# EAGLE library part TPS54495 (library ruark2)
Buck Switching Regulator IC Positive Adjustable 0.76V 2 Output 4A, 2A 16-PowerTSSOP (0.173", 4.40mm Width)
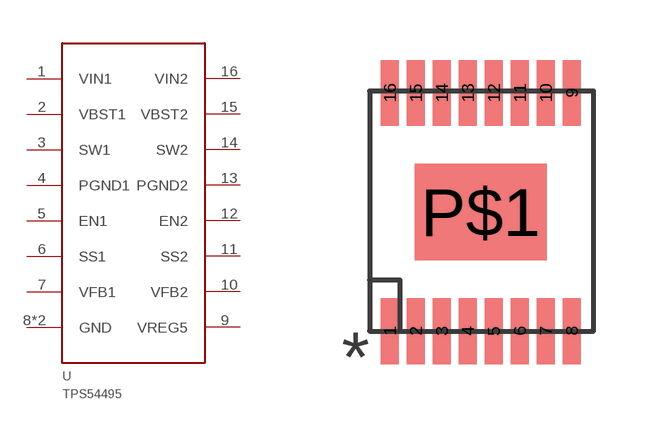
[diagram p124: symbol with the pads of TSSOP16-POWER; footprint TSSOP16-POWER]

Designator prefix U

## TPS54495 (PARTNO: 296-30583-1-ND)  [TSSOP16-POWER]
1  VIN1
2  VBST1
3  SW1
4  PGND1
5  EN1
6  SS1
7  VFB1
8  GND
9  VREG5
10  VFB2
11  SS2
12  EN2
13  PGND2
14  SW2
15  VBST2
16  VIN2
P$1  GND

## Footprint TSSOP16-POWER (pad centres in mm)
smd 0.45 x 1.65: 1 -2.275,-2.975; 2 -1.625,-2.975; 3 -0.975,-2.975; 4 -0.325,-2.975; 5 0.325,-2.975; 6 0.975,-2.975; 7 1.625,-2.975; 8 2.275,-2.975; 9 2.275,2.975; 10 1.625,2.975; 11 0.975,2.975; 12 0.325,2.975; 13 -0.325,2.975; 14 -0.975,2.975; 15 -1.625,2.975; 16 -2.275,2.975
smd 3.29 x 2.41: P$1 0,0